# Altium footprint library SOT23_6L.PcbLib: 1 footprints
Each footprint in its own frame and in the unit in brackets; x right, y up, seen from the top. Pads: shape width x height; smd on the part's side, far side on the other; paste and mask are expansions set on the pad; w line width, h text height; cw(c..) or ccw(c..) is an arc to the next point about the centre after c.
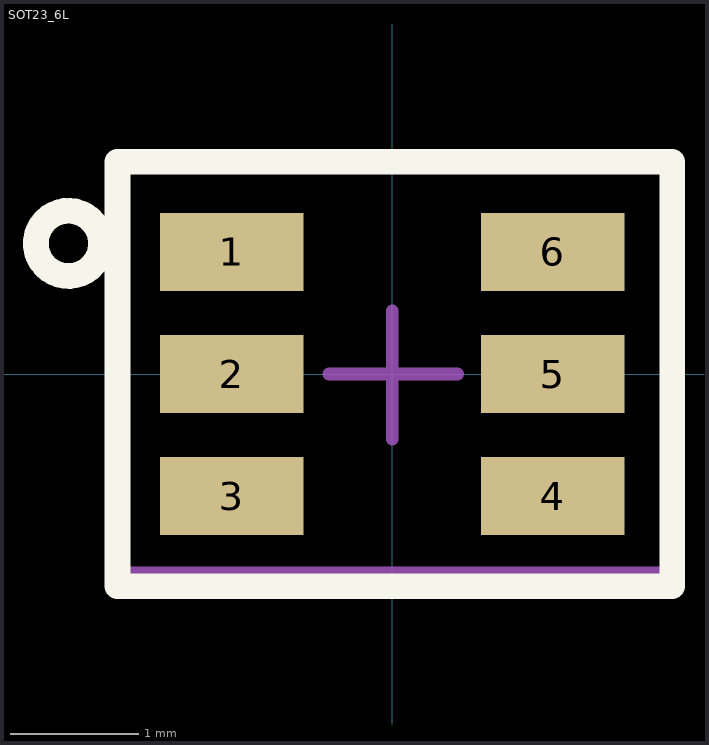
[diagram p0: the footprint, top view; thin cyan lines are the x and y axes]

## SOT23_6L [mil] "SOT23_6L, 6-Leads, Body 3.60x2.9mm, Pitch 0.95mm"
height 45.67
pads (6):
  rect 44x24 smd: 1(-49.21,37.4) 2(-49.21,0) 3(-49.21,-37.4) 4(49.21,-37.4) 5(49.21,0) 6(49.21,37.4)
Top Overlay:
  circle w7.87: c-99.21,40 r10
  lines w7.87: -84.21,-65 -84.21,65 85.79,65 85.79,-65 -84.21,-65
Mechanical 15:
  lines w3.94: -84.21,-60.98 -84.21,65 ; -19.37,0 20,0 ; 0,-20 0,19.37 ; 85.79,-60.98 85.79,65
  lines w4: -84.21,-60.98 85.79,-60.98 ; -84.21,65 85.79,65
3D body "WE-TVS_Standard_SOT23-6L_STD.stp": height 43.7, standoff -1.97, extent -55.11,-57.09 55.12,57.09